# EAGLE library part ALU_74181 (library IsaacAlonso)
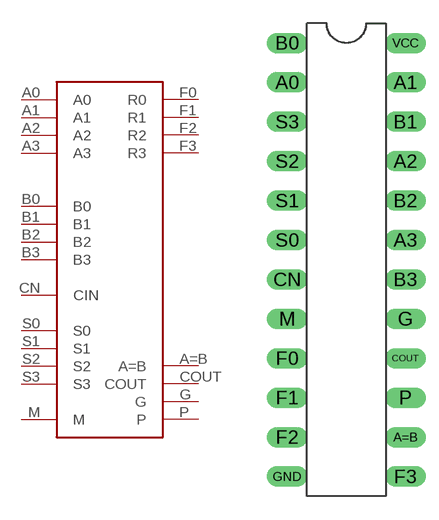
[diagram p0: symbol with the pads of ALU_74181; footprint ALU_74181]

Designator prefix -

## ALU_74181  [ALU_74181]
A0  A0
A1  A1
A2  A2
A3  A3
A=B  A=B
B0  B0
B1  B1
B2  B2
B3  B3
CN  CIN
COUT  COUT
F0  R0
F1  R1
F2  R2
F3  R3
G  G
M  M
P  P
S0  S0
S1  S1
S2  S2
S3  S3

## Footprint ALU_74181 (pad centres in mm)
drill 0.813 pad 1.321 long: A0 -3.81,11.43; A1 3.81,11.43; A2 3.81,6.35; A3 3.81,1.27; A=B 3.81,-11.43; B0 -3.81,13.97; B1 3.81,8.89; B2 3.81,3.81; B3 3.81,-1.27; CN -3.81,-1.27; COUT 3.81,-6.35; F0 -3.81,-6.35; F1 -3.81,-8.89; F2 -3.81,-11.43; F3 3.81,-13.97; G 3.81,-3.81; GND -3.81,-13.97; M -3.81,-3.81; P 3.81,-8.89; S0 -3.81,1.27; S1 -3.81,3.81; S2 -3.81,6.35; S3 -3.81,8.89; VCC 3.81,13.97